# EAGLE library part MY_CLOCK_LIB_COMPONENTS_VERTICAL_MICRO_USB (library HOR_water_tight_microUSB_raiser)
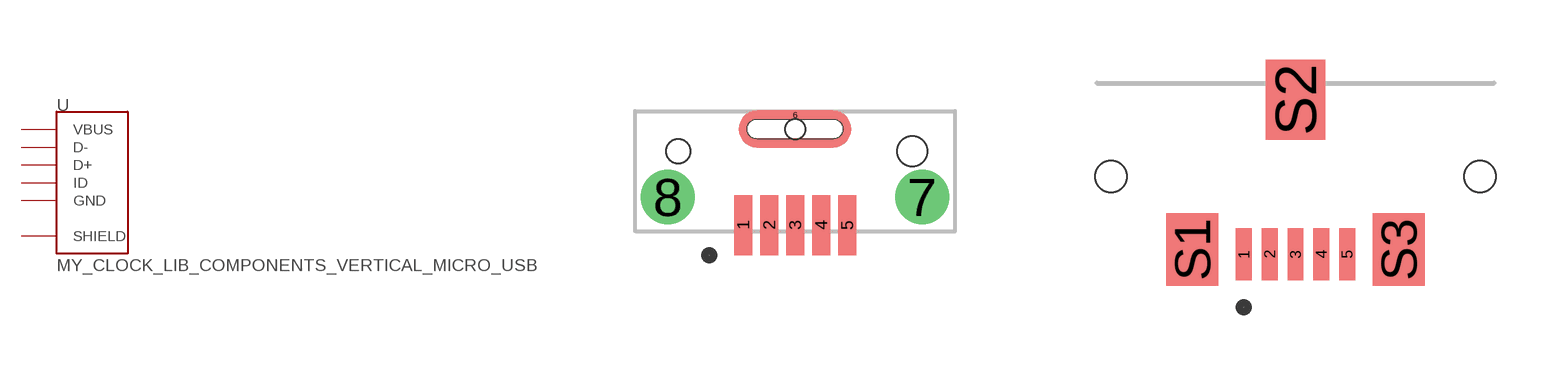
[diagram p0: symbol with the pads of MY_CLOCK_LIB_COMPONENTS_GCT_USB3160-30-0120-0-C; footprints MY_CLOCK_LIB_COMPONENTS_GCT_USB3160-30-0120-0-C, MY_CLOCK_LIB_COMPONENTS_CUI_UJ2-MIBV-4-SMT-TR-67]

Designator prefix -

## MY_CLOCK_LIB_COMPONENTS_VERTICAL_MICRO_USB  [MY_CLOCK_LIB_COMPONENTS_GCT_USB3160-30-0120-0-C]
1  VBUS  pwr
2  D-
3  D+
4  ID  pas
5  GND  pwr
6  SHIELD  pas
7  SHIELD  pas
8  SHIELD  pas

## MY_CLOCK_LIB_COMPONENTS_VERTICAL_MICRO_USBUJ2-MIBV-4-SMT-TR-67  [MY_CLOCK_LIB_COMPONENTS_CUI_UJ2-MIBV-4-SMT-TR-67]
1  VBUS  pwr
2  D-
3  D+
4  ID  pas
5  GND  pwr
S1  SHIELD  pas
S2  SHIELD  pas
S3  SHIELD  pas

## MY_CLOCK_LIB_COMPONENTS_VERTICAL_MICRO_USBCUI_HOR_T4  [MY_CLOCK_LIB_COMPONENTS_CUI_UJ2-MIBH-4-SMT-TR-67]
1  VBUS  pwr
2  D-
3  D+
4  ID  pas
5  GND  pwr
S1  SHIELD  pas
S2  SHIELD  pas

## Footprint MY_CLOCK_LIB_COMPONENTS_GCT_USB3160-30-0120-0-C (pad centres in mm)
smd 0.45 x 1.5: 1 -1.3,-1.35; 2 -0.65,-1.35; 3 0,-1.35; 4 0.65,-1.35; 5 1.3,-1.35
smd 0.1 x 0.1: 6 0,1.4
drill 0.85 pad 1.25: 7 3.18,-0.65; 8 -3.18,-0.65
hole 0.5 at 0,1.05
hole 0.6 at -2.925,0.5
hole 0.75 at 2.925,0.5

## Footprint MY_CLOCK_LIB_COMPONENTS_CUI_UJ2-MIBV-4-SMT-TR-67 (pad centres in mm)
smd 0.4 x 1.3: 1 -1.3,-1.96; 2 -0.65,-1.96; 3 0,-1.96; 4 0.65,-1.96; 5 1.3,-1.96
smd 1.3 x 1.83: S1 -2.6,-1.84; S3 2.6,-1.84
smd 1.5 x 2.02: S2 0,1.935
hole 0.8 at -4.65,0
hole 0.8 at 4.65,0

## Footprint MY_CLOCK_LIB_COMPONENTS_CUI_UJ2-MIBH-4-SMT-TR-67 (pad centres in mm)
smd 1.3 x 0.4: 1 4.25,1.3; 2 4.25,0.65; 3 4.25,0; 4 4.25,-0.65; 5 4.25,-1.3
drill 0.6: S1 4.2,2.55; S2 4.2,-2.55
hole 1.1 at 2,2.5
hole 1.1 at 2,-2.5